# EAGLE library part FT232R (library harp camera controller)
UART/FIFO IC
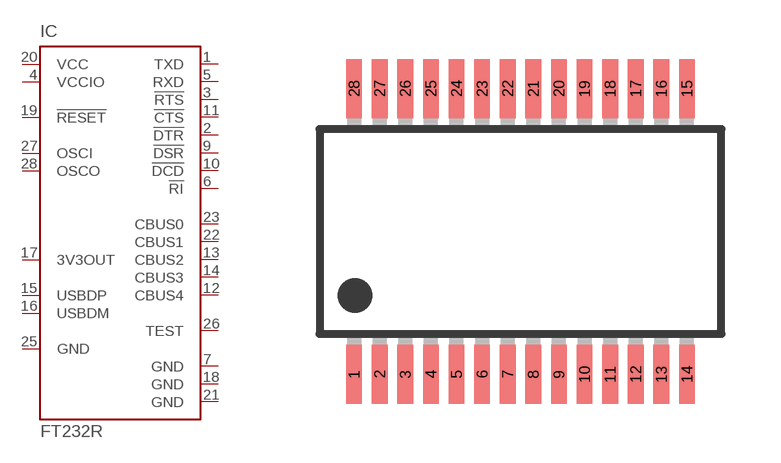
[diagram p3: symbol with the pads of SSOP28; footprint SSOP28]

Designator prefix IC

## FT232RL  [SSOP28]
1  TXD  out
2  !DTR  pas
3  !RTS  out
4  VCCIO  in
5  RXD  in
6  !RI  pas
7  GND  pwr
9  !DSR  pas
10  !DCD  pas
11  !CTS  in
12  CBUS4  pas
13  CBUS2  pas
14  CBUS3  pas
15  USBDP
16  USBDM
17  3V3OUT  out
18  GND  pwr
19  !RESET  pas
20  VCC  in
21  GND  pwr
22  CBUS1  pas
23  CBUS0  pas
25  GND  pwr
26  TEST  in
27  OSCI  pas
28  OSCO  out

## Footprint SSOP28 (pad centres in mm)
Shrink Small Outline Package SSOP-28 http://www.ftdichip.com/Documents/DataSheets/DS_FT232R_v104.pdf
smd 0.4 x 1.5: 1 -4.225,-3.625; 2 -3.575,-3.625; 3 -2.925,-3.625; 4 -2.275,-3.625; 5 -1.625,-3.625; 6 -0.975,-3.625; 7 -0.325,-3.625; 8 0.325,-3.625; 9 0.975,-3.625; 10 1.625,-3.625; 11 2.275,-3.625; 12 2.925,-3.625; 13 3.575,-3.625; 14 4.225,-3.625; 15 4.225,3.625; 16 3.575,3.625; 17 2.925,3.625; 18 2.275,3.625; 19 1.625,3.625; 20 0.975,3.625; 21 0.325,3.625; 22 -0.325,3.625; 23 -0.975,3.625; 24 -1.625,3.625; 25 -2.275,3.625; 26 -2.925,3.625; 27 -3.575,3.625; 28 -4.225,3.625